# EAGLE library part POE-TP-SHIELDED-LEDS (library ELL-i-Connectors)
Twisted pair Power-over-Ethernet MDI connector, with protective ground and LEDs 8-wire Ethernet jack, with a protective ground and status LEDs. See the POE-TP device for more information.
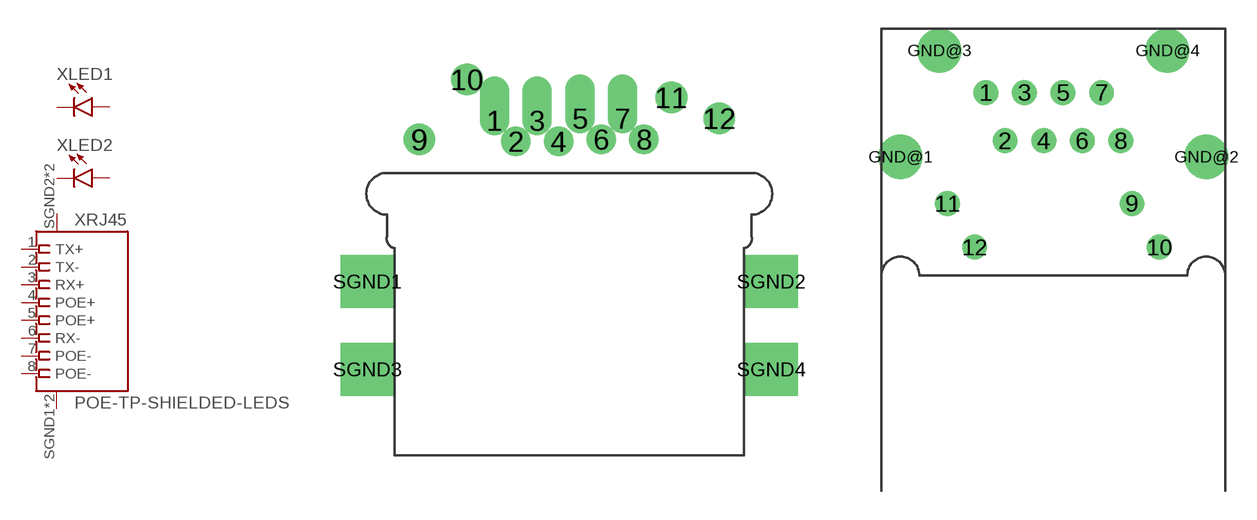
[diagram p13: symbol with the pads of XMK-8788K5-BX1X; footprints XMK-8788K5-BX1X, TE1888250]

Designator prefix X; gates RJ45=POE-MDI-SHIELDED LED2=LED LED1=LED

## POE-TP-SHIELDED-LEDS  [XMK-8788K5-BX1X]
1  RJ45:TX+  in
2  RJ45:TX-  in
3  RJ45:RX+  out
4  RJ45:POE+  pwr
5  RJ45:POE+  pwr
6  RJ45:RX-  out
7  RJ45:POE-  pwr
8  RJ45:POE-  pwr
9  LED2:A  pas
10  LED2:C  pas
11  LED1:A  pas
12  LED1:C  pas
SGND1  RJ45:GND  pas
SGND2  RJ45:GND  pas
SGND3  RJ45:GND  pas
SGND4  RJ45:GND  pas

## POE-TP-SHIELDED-LEDSTE1888250  [TE1888250]
1  RJ45:TX+  in
2  RJ45:TX-  in
3  RJ45:RX+  out
4  RJ45:POE+  pwr
5  RJ45:POE+  pwr
6  RJ45:RX-  out
7  RJ45:POE-  pwr
8  RJ45:POE-  pwr
9  LED1:C  pas
10  LED1:A  pas
11  LED2:A  pas
12  LED2:C  pas
GND@1  RJ45:GND  pas
GND@2  RJ45:GND  pas
GND@3  RJ45:GND  pas
GND@4  RJ45:GND  pas

## POE-TP-SHIELDED-LEDSTE1888250-A  [TE1888250-A]
Pads as for TE1888250

## Footprint XMK-8788K5-BX1X (pad centres in mm)
drill 0.9 pad 1.016 offset: 1 -3.57,2.5; 3 -1.53,2.5; 5 0.51,2.6; 7 2.55,2.6
drill 0.9 pad 1.27: 2 -2.55,1.5; 4 -0.51,1.5; 6 1.53,1.6; 8 3.57,1.6
drill 1: 9 -7.175,1.6; 10 -4.885,4.46; 11 4.885,3.6; 12 7.175,2.6
drill 1 pad 2.54 square: SGND1 -9.65,-5.2; SGND2 9.65,-5.2; SGND3 -9.65,-9.4; SGND4 9.65,-9.4

## Footprint TE1888250 (pad centres in mm)
Tyco Electronics 1888250 RJ-45 receptacle PCB Mounted RJ45 Jack, Single Port 1x1, Low Profile, 8P8C Product web page <http://www.te.com/catalog/products/en?q=1888250>
drill 0.8: 1 -3.556,20.98; 2 -2.54,18.44; 3 -1.524,20.98; 4 -0.508,18.44; 5 0.508,20.98; 6 1.524,18.44; 7 2.54,20.98; 8 3.556,18.44; 9 4.14,15.14; 10 5.58,12.84; 11 -5.58,15.14; 12 -4.14,12.84
drill 1.55: GND@1 -8.054,17.59; GND@2 8.045,17.59; GND@3 -6,23.19; GND@4 6,23.19

## Footprint TE1888250-A (pad centres in mm)
Tyco Electronics 1888250 RJ-45 receptacle PCB Mounted RJ45 Jack, Single Port 1x1, Low Profile, 8P8C This connector needs a PCB cutout placed along drawing. Be sure to specify a reasonable radius to inner corners, manufacturer recommendation is 0.5mm. Part outline is in measures layer. Silkscreen has 0.15 mm width, 0.15 mm clearance from part, 1.5 mm font height. Silkscreen is at tPlace layer. Silkscreen is completely visible after assembly and does not overlap pads. Part name is in tNames layer. Assembly drawing is in tDocu layer. Part has 0.5 mm keepout from dimensions in tKeepout layer. Part does not include cutout. Please refer to PCB libraries design document <http://www.pcblibraries.com/downloads/Guidelines!PCB_Design_Optimization_Starts_in_the_CAD_Library.asp> for details. Product web page <http://www.te.com/catalog/products/en?q=1888250>
drill 0.8: 1 -3.556,9.64; 2 -2.54,7.1; 3 -1.524,9.64; 4 -0.508,7.1; 5 0.508,9.64; 6 1.524,7.1; 7 2.54,9.64; 8 3.556,7.1
drill 0.6: 9 4.18,3.8; 10 5.8,1.5; 11 -5.58,3.8; 12 -4.14,1.5
drill 1.1: GND@1 -8.045,6.25; GND@2 8.045,6.25; GND@3 -6,11.85; GND@4 6,11.85